# EAGLE library part DGD05473 (library lib_ysk)
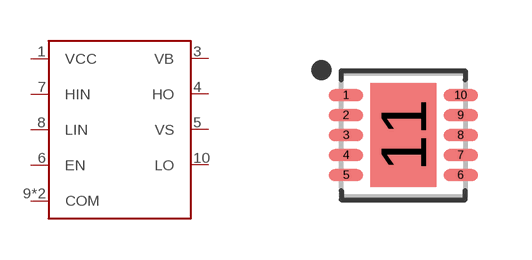
[diagram p4: symbol with the pads of SON50P300X300X80-11T165X260; footprint SON50P300X300X80-11T165X260]

Designator prefix -

## DGD05473FN  [SON50P300X300X80-11T165X260]
1  VCC
3  VB
4  HO
5  VS
6  EN
7  HIN
8  LIN
9  COM
10  LO
11  COM

## Footprint SON50P300X300X80-11T165X260 (pad centres in mm)
10-SON, 0.50 mm pitch, 3.00 X 3.00 X 0.80 mm body, 2.60 X 1.65 mm thermal pad 10-pin SON package with 0.50 mm pitch with body size 3.00 X 3.00 X 0.80 mm and thermal pad size 2.60 X 1.65 mm
smd 0.86 x 0.3: 1 -1.435,1; 2 -1.435,0.5; 3 -1.435,0; 4 -1.435,-0.5; 5 -1.435,-1; 6 1.435,-1; 7 1.435,-0.5; 8 1.435,0; 9 1.435,0.5; 10 1.435,1
smd 1.65 x 2.6: 11 0,0